# EAGLE library part CR2-12V (library relay-fujitsu)
DUAL POWER QUIET AUTOMOTIVE RELAY NAiS Source: http://www.mew-europe.com/.. en_ds_61209_0000.pdf
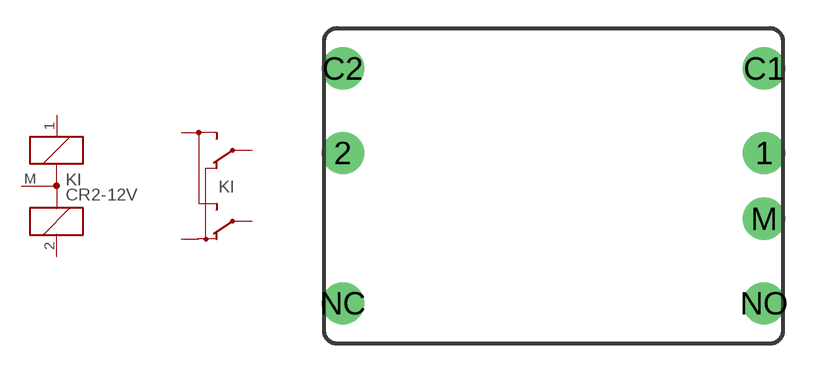
[diagram p87: symbol with the pads of CR2; footprint CR2]

Designator prefix KI; gates 1=K2-1 2=CF

## CR2-12V  [CR2]
1  1:1  pas
2  1:2  pas
C1  2:COM1  pas
C2  2:COM2  pas
M  1:M  pas
NC  2:NC  pas
NO  2:NO  pas

## Footprint CR2 (pad centres in mm)
DUAL POWER QUIET AUTOMOTIVE RELAY NAiS Source: http://www.mew-europe.com/.. en_ds_61209_0000.pdf
drill 1.5 round: 1 11.2,1.75; 2 -11.2,1.75; C1 11.2,6.25; C2 -11.2,6.25; M 11.2,-1.75; NC -11.2,-6.25; NO 11.2,-6.25